# EAGLE library part DB-25M (library Digilent)
Male DB-25
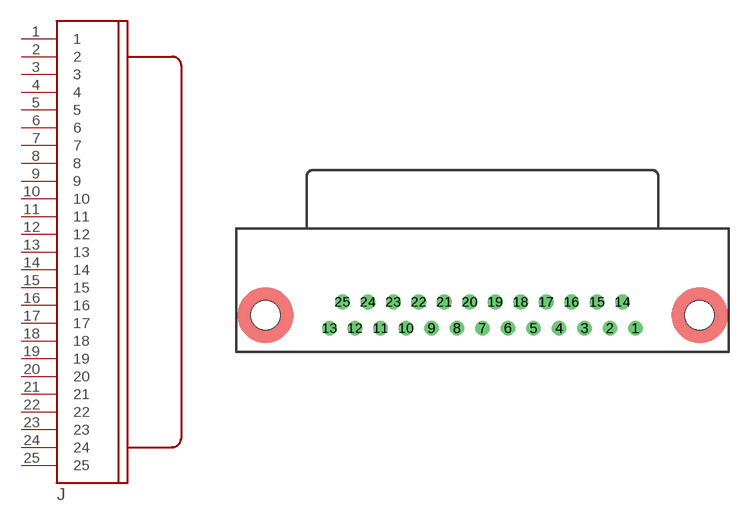
[diagram p38: symbol with the pads of CON-DB25M; footprint CON-DB25M]

Designator prefix J

## DB-25M  [CON-DB25M]
1  1  pas
2  2  pas
3  3  pas
4  4  pas
5  5  pas
6  6  pas
7  7  pas
8  8  pas
9  9  pas
10  10  pas
11  11  pas
12  12  pas
13  13  pas
14  14  pas
15  15  pas
16  16  pas
17  17  pas
18  18  pas
19  19  pas
20  20  pas
21  21  pas
22  22  pas
23  23  pas
24  24  pas
25  25  pas

## Footprint CON-DB25M (pad centres in mm)
drill 1.067 round: 1 16.566,0; 2 13.805,0; 3 11.044,0; 4 8.283,0; 5 5.522,0; 6 2.761,0; 7 0,0; 8 -2.761,0; 9 -5.522,0; 10 -8.283,0; 11 -11.044,0; 12 -13.805,0; 13 -16.566,0; 14 15.171,2.845; 15 12.413,2.845; 16 9.655,2.845; 17 6.896,2.845; 18 4.138,2.845; 19 1.379,2.845; 20 -1.379,2.845; 21 -4.138,2.845; 22 -6.896,2.845; 23 -9.655,2.845; 24 -12.413,2.845; 25 -15.171,2.845
hole 3.175 at 23.526,1.422
hole 3.175 at -23.526,1.422